# Altium schematic symbol library LT1945EMSPBF.SchLib: 2 symbols
Pins are listed as number, name and electrical type; pins without a type are passive.

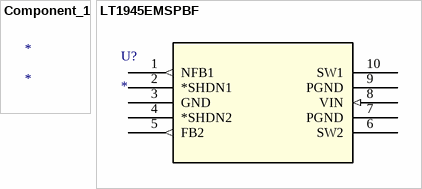
[diagram p0: symbols Component_1 to LT1945EMSPBF]

## Component_1
designator *

## LT1945EMSPBF
designator U?
No Description Available; Mfr_Name: Analog Devices Inc; RefDes: RefDes; Type: Type
footprint MSOP-10_MS_LIT
pins: 1 NFB1 (out), 2 *SHDN1, 3 GND (power), 4 *SHDN2, 5 FB2 (out), 6 SW2, 7 PGND (power), 8 VIN (in), 9 PGND (power), 10 SW1